# EAGLE library part CY7C1010DV33 (library Oles komponentbibliotek)
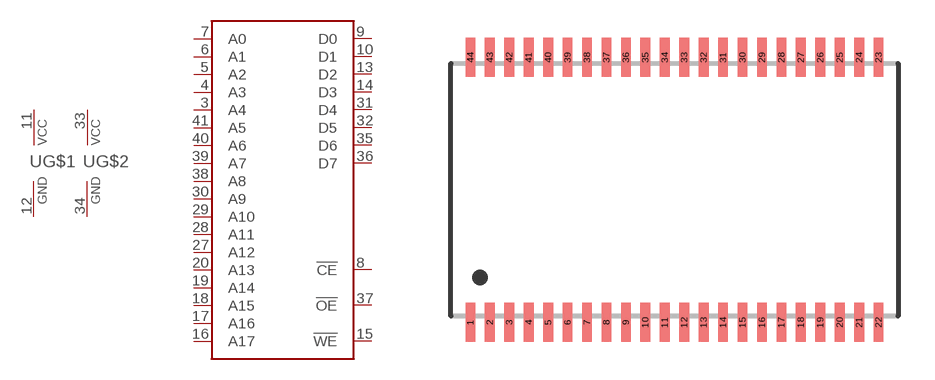
[diagram p9: symbol with the pads of TSOP44; footprint TSOP44]

Designator prefix -; gates G$1=PWRN G$3=CY7C1010CV33 G$2=PWRN

## CY7C1010DV33  [TSOP44]
3  G$3:A4  in
4  G$3:A3  in
5  G$3:A2  in
6  G$3:A1  in
7  G$3:A0  in
8  G$3:!CE  in
9  G$3:D0
10  G$3:D1
11  G$1:VCC  pwr
12  G$1:GND  pwr
13  G$3:D2
14  G$3:D3
15  G$3:!WE  in
16  G$3:A17  in
17  G$3:A16  in
18  G$3:A15  in
19  G$3:A14  in
20  G$3:A13  in
27  G$3:A12  in
28  G$3:A11  in
29  G$3:A10  in
30  G$3:A9  in
31  G$3:D4
32  G$3:D5
33  G$2:VCC  pwr
34  G$2:GND  pwr
35  G$3:D6
36  G$3:D7
37  G$3:!OE  in
38  G$3:A8  in
39  G$3:A7  in
40  G$3:A6  in
41  G$3:A5  in

## Footprint TSOP44 (pad centres in mm)
TSOP44-2 TSOP Type II package
smd 0.4 x 1.6: 1 -8.4,-5.05; 2 -7.6,-5.05; 3 -6.8,-5.05; 4 -6,-5.05; 5 -5.2,-5.05; 6 -4.4,-5.05; 7 -3.6,-5.05; 8 -2.8,-5.05; 9 -2,-5.05; 10 -1.2,-5.05; 11 -0.4,-5.05; 12 0.4,-5.05; 13 1.2,-5.05; 14 2,-5.05; 15 2.8,-5.05; 16 3.6,-5.05; 17 4.4,-5.05; 18 5.2,-5.05; 19 6,-5.05; 20 6.8,-5.05; 21 7.6,-5.05; 22 8.4,-5.05; 23 8.4,5.85; 24 7.6,5.85; 25 6.8,5.85; 26 6,5.85; 27 5.2,5.85; 28 4.4,5.85; 29 3.6,5.85; 30 2.8,5.85; 31 2,5.85; 32 1.2,5.85; 33 0.4,5.85; 34 -0.4,5.85; 35 -1.2,5.85; 36 -2,5.85; 37 -2.8,5.85; 38 -3.6,5.85; 39 -4.4,5.85; 40 -5.2,5.85; 41 -6,5.85; 42 -6.8,5.85; 43 -7.6,5.85; 44 -8.4,5.85